# Altium schematic symbol library 55935-0410.SchLib: 1 symbol
Pins are listed as number, name and electrical type; pins without a type are passive.

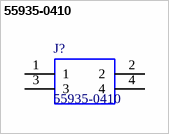
[diagram p0: symbol 55935-0410]

## 55935-0410
designator J?
Molex MICROCLASP Series, Series Number 55935, 2mm Pitch 4 Way 1 Row Right Angle PCB Header, Solder Termination, 3A; Geometry.Height: 6mm; Mouser Part Number: 538-55935-0410; Manufacturer_Name: Molex; Manufacturer_Part_Number: 55935-0410; Datasheet Link: https://componentsearchengine.com/Datasheets/1/55935-0410.pdf
footprint 559350410
pins: 1, 2, 3, 4